# Altium schematic symbol library fgr.SchLib: 756 symbols (part 4 of 4)
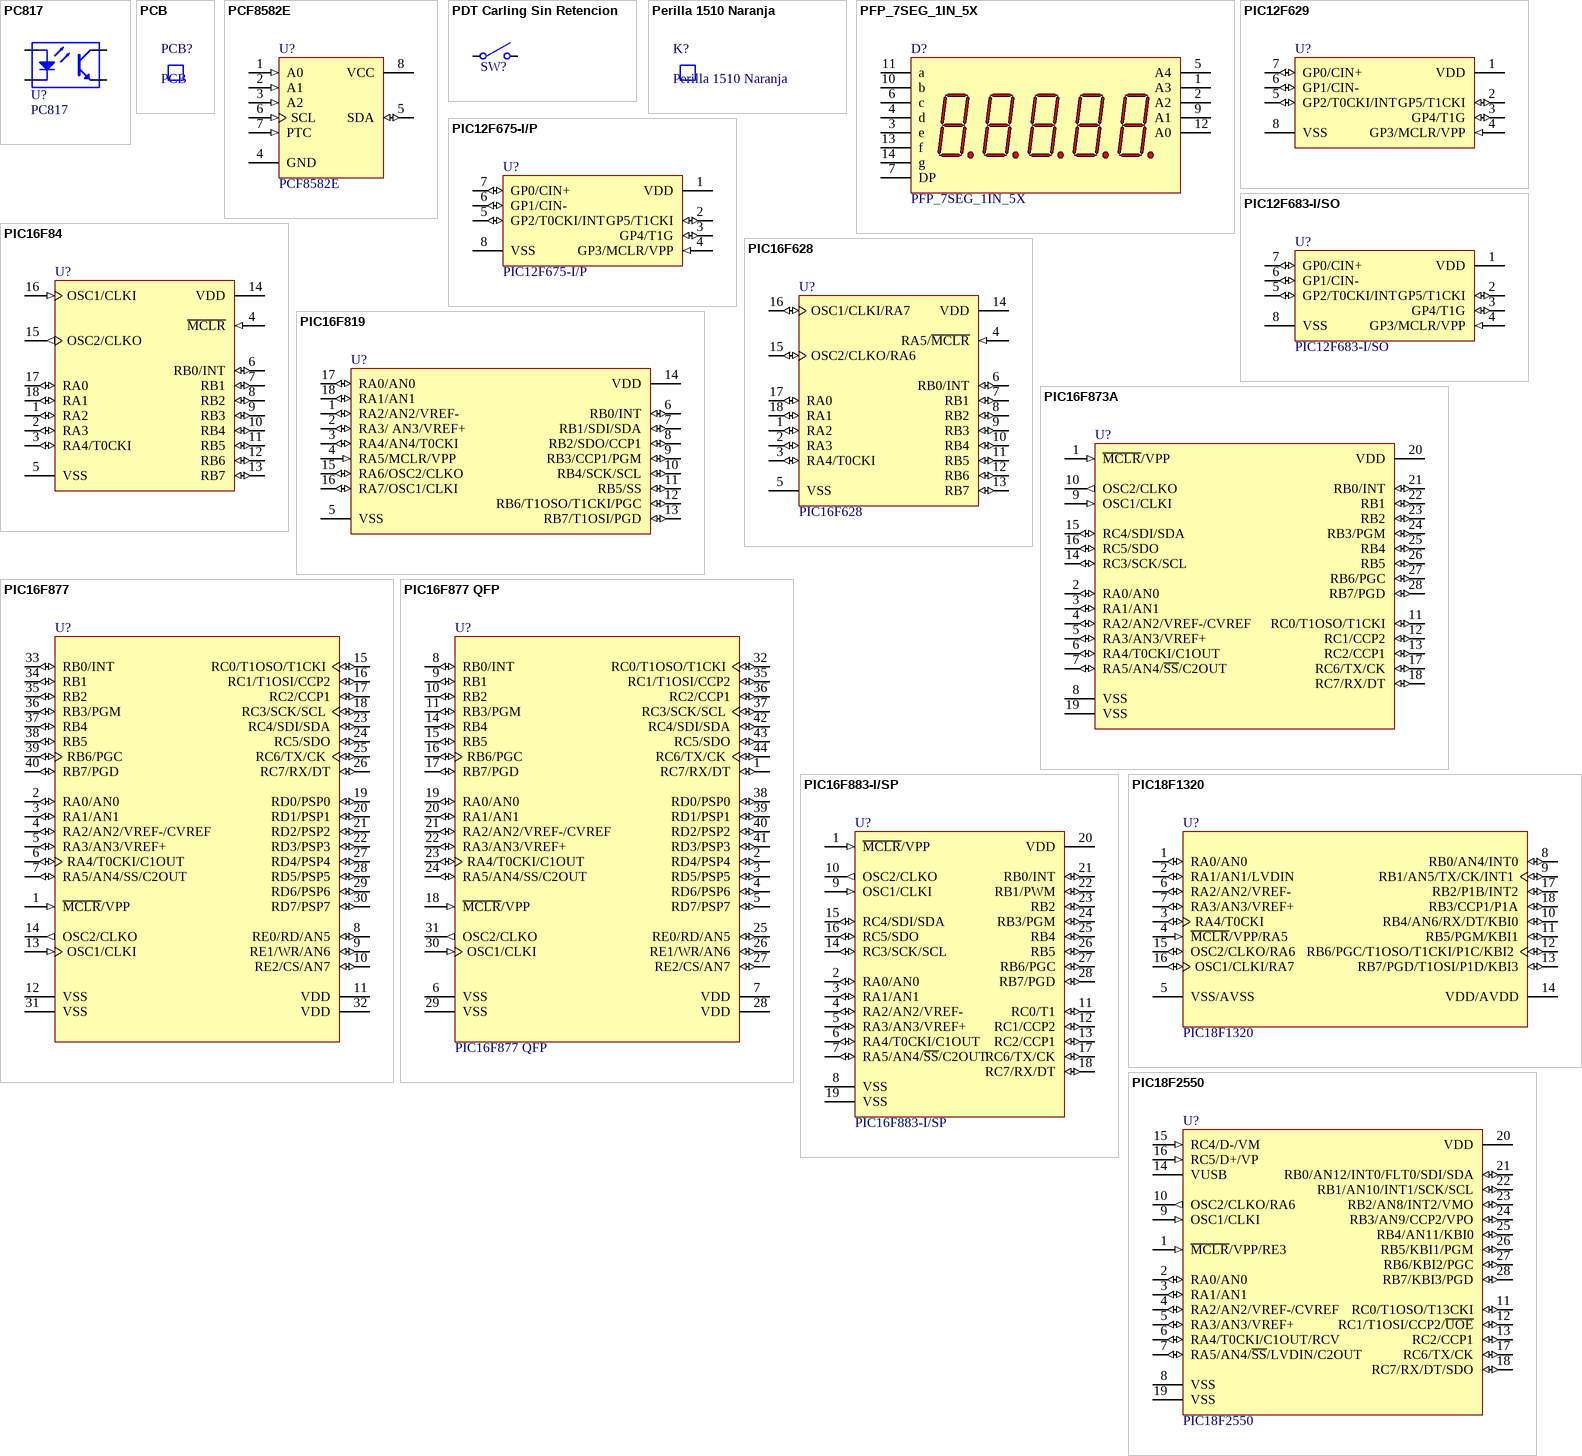
[diagram p27: symbols PC817 to PIC18F2550]

## PIC18F2550
designator U?
Enhanced FLASH Microcontroller
footprint DIP28Z2
footprint soic28
pins: 1 ~{MCLR}/VPP/RE3 (in), 2 RA0/AN0 (io), 3 RA1/AN1 (io), 4 RA2/AN2/VREF-/CVREF (io), 5 RA3/AN3/VREF+ (io), 6 RA4/T0CKI/C1OUT/RCV (io), 7 RA5/AN4/~{SS}/LVDIN/C2OUT (io), 8 VSS (power), 9 OSC1/CLKI (in), 10 OSC2/CLKO/RA6 (out), 11 RC0/T1OSO/T13CKI (io), 12 RC1/T1OSI/CCP2/~{UOE} (io), 13 RC2/CCP1 (io), 14 VUSB, 15 RC4/D-/VM (in), 16 RC5/D+/VP (in), 17 RC6/TX/CK (io), 18 RC7/RX/DT/SDO (io), 19 VSS (power), 20 VDD (power), 21 RB0/AN12/INT0/FLT0/SDI/SDA (io), 22 RB1/AN10/INT1/SCK/SCL (io), 23 RB2/AN8/INT2/VMO (io), 24 RB3/AN9/CCP2/VPO (io), 25 RB4/AN11/KBI0 (io), 26 RB5/KBI1/PGM (io), 27 RB6/KBI2/PGC (io), 28 RB7/KBI3/PGD (io)

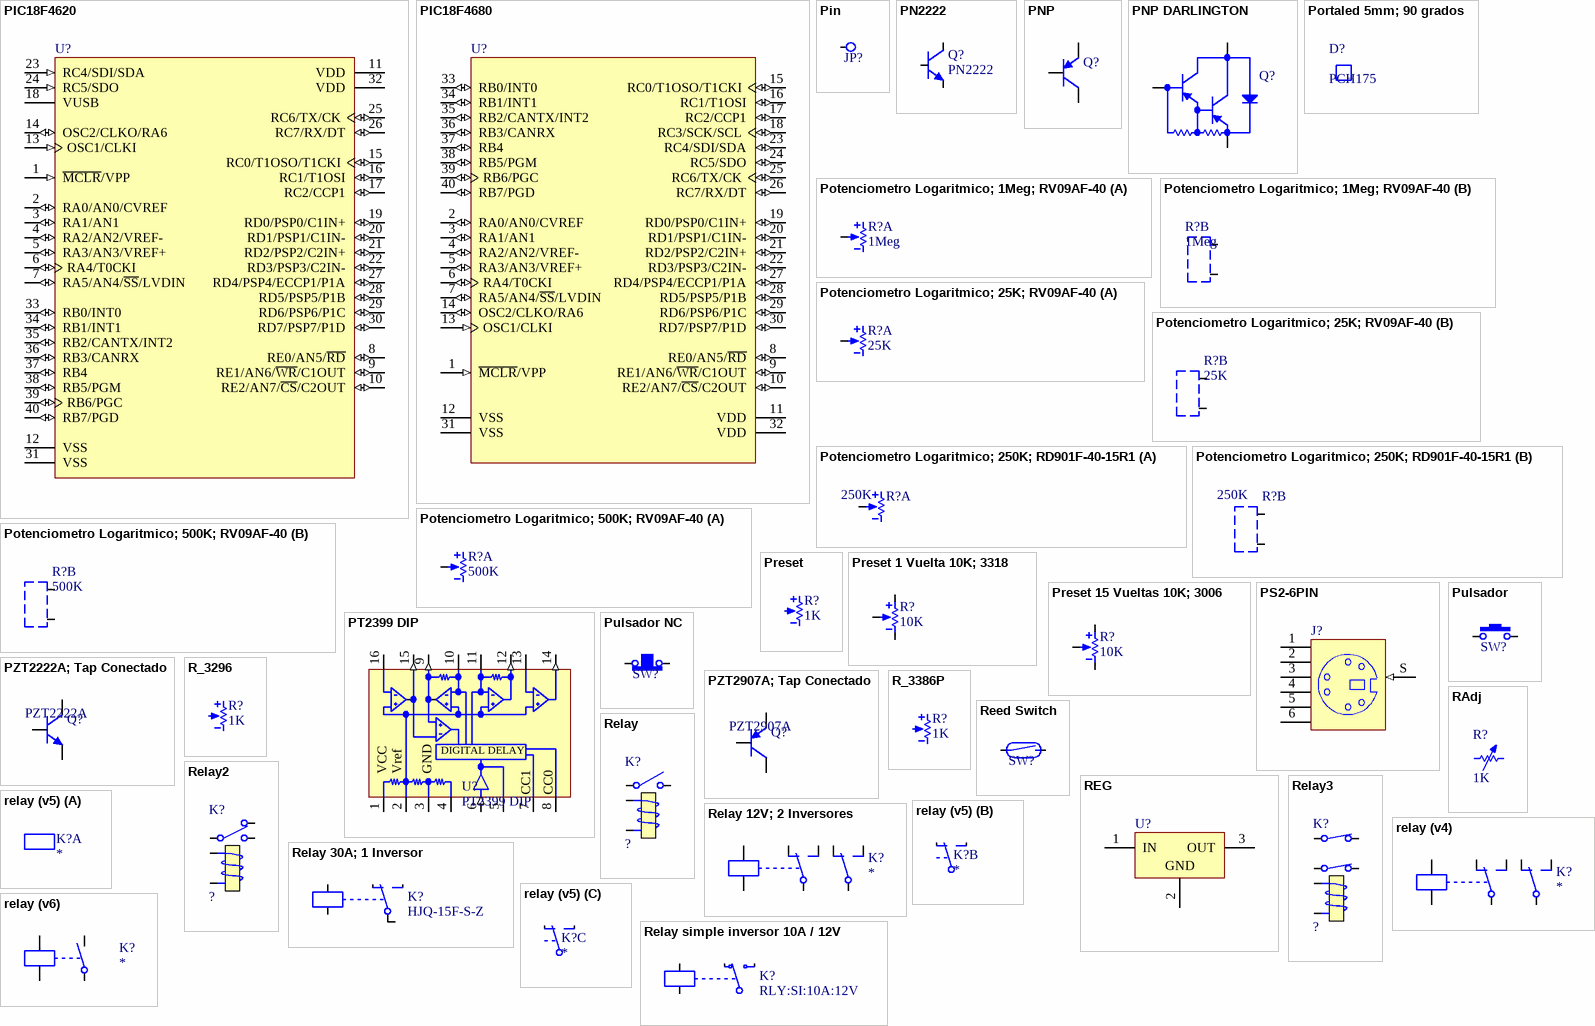
[diagram p19: symbols PIC18F4620 to Relay simple inversor 10A / 12V]

## PIC18F4620
designator U?
FLASH Microcontroller
footprint DIP40 (DIP40 IC)
pins: 1 ~{MCLR}/VPP (in), 2 RA0/AN0/CVREF (io), 3 RA1/AN1 (io), 4 RA2/AN2/VREF- (io), 5 RA3/AN3/VREF+ (io), 6 RA4/T0CKI (io), 7 RA5/AN4/~{SS}/LVDIN (io), 8 RE0/AN5/~{RD} (io), 9 RE1/AN6/~{WR}/C1OUT (io), 10 RE2/AN7/~{CS}/C2OUT (io), 11 VDD (power), 12 VSS (power), 13 OSC1/CLKI (in), 14 OSC2/CLKO/RA6 (io), 15 RC0/T1OSO/T1CKI (io), 16 RC1/T1OSI (io), 17 RC2/CCP1 (io), 18 VUSB (power), 19 RD0/PSP0/C1IN+ (io), 20 RD1/PSP1/C1IN- (io), 21 RD2/PSP2/C2IN+ (io), 22 RD3/PSP3/C2IN- (io), 23 RC4/SDI/SDA (in), 24 RC5/SDO (in), 25 RC6/TX/CK (io), 26 RC7/RX/DT (io), 27 RD4/PSP4/ECCP1/P1A (io), 28 RD5/PSP5/P1B (io), 29 RD6/PSP6/P1C (io), 30 RD7/PSP7/P1D (io), 31 VSS (power), 32 VDD (power), 33 RB0/INT0 (io), 34 RB1/INT1 (io), 35 RB2/CANTX/INT2 (io), 36 RB3/CANRX (io), 37 RB4 (io), 38 RB5/PGM (io), 39 RB6/PGC (io), 40 RB7/PGD (io)

## PIC18F4680
designator U?
FLASH Microcontroller
footprint DIP40 (DIP40 IC)
pins: 1 ~{MCLR}/VPP (in), 2 RA0/AN0/CVREF (io), 3 RA1/AN1 (io), 4 RA2/AN2/VREF- (io), 5 RA3/AN3/VREF+ (io), 6 RA4/T0CKI (io), 7 RA5/AN4/~{SS}/LVDIN (io), 8 RE0/AN5/~{RD} (io), 9 RE1/AN6/~{WR}/C1OUT (io), 10 RE2/AN7/~{CS}/C2OUT (io), 11 VDD (power), 12 VSS (power), 13 OSC1/CLKI (in), 14 OSC2/CLKO/RA6 (io), 15 RC0/T1OSO/T1CKI (io), 16 RC1/T1OSI (io), 17 RC2/CCP1 (io), 18 RC3/SCK/SCL (io), 19 RD0/PSP0/C1IN+ (io), 20 RD1/PSP1/C1IN- (io), 21 RD2/PSP2/C2IN+ (io), 22 RD3/PSP3/C2IN- (io), 23 RC4/SDI/SDA (io), 24 RC5/SDO (io), 25 RC6/TX/CK (io), 26 RC7/RX/DT (io), 27 RD4/PSP4/ECCP1/P1A (io), 28 RD5/PSP5/P1B (io), 29 RD6/PSP6/P1C (io), 30 RD7/PSP7/P1D (io), 31 VSS (power), 32 VDD (power), 33 RB0/INT0 (io), 34 RB1/INT1 (io), 35 RB2/CANTX/INT2 (io), 36 RB3/CANRX (io), 37 RB4 (io), 38 RB5/PGM (io), 39 RB6/PGC (io), 40 RB7/PGD (io)

## Pin
designator JP?
Pin; Price: ?
footprint pin_130_70
pins: 1

## PN2222
designator Q?
footprint to92 (DISPOSITIVO DE ENCAPSULADO TO-92); pin to pad 1>2 2>3 3>1
pins: 1 B, 2 C, 3 E

## PNP
designator Q?
PNP Bipolar Transistor; Price: 0.3267
footprint to92 (DISPOSITIVO DE ENCAPSULADO TO-92)
simulation model BC856A (PNP)
simulation model QBC856B (PNP)
footprint SOT23; pin to pad 1>3 2>1 3>2
simulation model QPNP (SUBCKT)
simulation model PNPDEF (MDL)
pins: 1 C, 2 B, 3 E

## PNP DARLINGTON
designator Q?
PNP Darlington Bipolar Transistor; Price: ?
pins: 1 C, 2 B, 3 E

## Portaled 5mm; 90 grados
designator D?, comment PCH175
Portaled 5mm; 90 grados; Codigo Mouser: 593-PCH175; Dolares Mouser: 0.27; Dolares Mouser x10: 0.243; Dolares Mouser x100: 0.152; Dolares Mouser x500: 0.09
footprint PORTALED PCH175

## Potenciometro Logaritmico; 1Meg; RV09AF-40
designator R?, comment Resistencia: 1Meg  (hidden comment: RV09AF-40)
Potenciometro Logaritmico; 1Meg; RV09AF-40; Dolares Tyda: 0.67; Codigo Mouser: 317-2080F-1M; Dolares Mouser: 1.28; Dolares Mouser x25: 1.07; Dolares Mouser x50: 1.01; Dolares Mouser x100: 0.909; Dolares Mouser x500: 0.771
footprint Pote RV09 ALPHA
part A pins: 1, 2, 3
part B pins: 4, 5

## Potenciometro Logaritmico; 25K; RV09AF-40
designator R?, comment Resistencia: 25K  (hidden comment: RV09AF-40)
Potenciometro Logaritmico; 25K; RV09AF-40; Dolares Tyda: 0.67
footprint Pote RV09 ALPHA
part A pins: 1, 2, 3
part B pins: 4, 5

## Potenciometro Logaritmico; 250K; RD901F-40-15R1
designator R?, comment Resistencia: 250K  (hidden comment: RD901F-40-15R1)
Potenciometro Logaritmico; 250K; RD901F-40-15R1; Dolares Mammoth: 1.90
footprint POTE RD901F-40-15R ALPHA; pin to pad 2>3 3>2
part A pins: 1, 2, 3
part B pins: 4, 5

## Potenciometro Logaritmico; 500K; RV09AF-40
designator R?, comment Resistencia: 500K  (hidden comment: RV09AF-40)
Potenciometro Logaritmico; 500K; RV09AF-40; Dolares Tyda: 0.67
footprint Pote RV09 ALPHA
part A pins: 1, 2, 3
part B pins: 4, 5

## Preset
designator R?  value 1K  (hidden comment: Preset)
Resistencia Variable
simulation model Potentiometer
footprint PRESET6
pins: 1, 2, 3

## Preset 1 Vuelta 10K; 3318
designator R?  value 10K  (hidden comment: Preset 1 Vuelta 10K; 3318)
footprint preset7
pins: 1, 2, 3

## Preset 15 Vueltas 10K; 3006
designator R?  value 10K  (hidden comment: Preset 15 Vueltas 10K; 3006)
footprint preset5
pins: 1, 2, 3

## PS2-6PIN
designator J?
6 Pin Through Hole PS2 Socket (Kycon P/N)
footprint PS2-6PIN
pins: 1, 2, 3, 4, 5, 6, S (in)

## PT2399 DIP
designator U?
footprint DIP16 (DIP16 IC)
pins: 1 VCC (power), 2 Vref (power), 3 AGND (power), 4 DGND (power), 5 CLK OUT (io), 6 DGND (in), 7 CC1, 8 CC0, 9 INT1 OUT (out), 10 INT1 IN, 11 INT2 IN, 12 INT2 OUT (out), 13 OA2 IN, 14 OA2 OUT (out), 15 OA1 OUT (out), 16 OA1 IN
text: DIGITAL DELAY; GND

## Pulsador
designator SW?
Pulsador; Price: ?
footprint PULSADOR200TH (PULSADOR DE 2 CONTACTOS, 2 TERMINALES)
footprint PULSADOR300TH (PULSADOR DE 2 CONTACTOS, 4 TERMINALES)
footprint PULSADOR300TH_CRUZADO
footprint PULSADOR625mmTH
footprint PULSADOR625mmTH_CRUZ
footprint pulsador_V1; pin to pad 1>3
pins: 1, 2

## Pulsador NC
designator SW?  (value not drawn)
Price: ?
footprint PULSADOR200TH (PULSADOR DE 2 CONTACTOS, 2 TERMINALES)
footprint PULSADOR300TH (PULSADOR DE 2 CONTACTOS, 4 TERMINALES)
footprint PULSADOR300TH_CRUZADO
footprint PULSADOR625mmTH
footprint PULSADOR625mmTH_CRUZ
footprint pulsador_V1; pin to pad 1>3
pins: 1, 2

## PZT2222A; Tap Conectado
designator Q?, comment PZT2222A
Codigo Mouser: 512-PZT2222A; Dolares Mouser: 0.42; Dolares Mouser x10: 0.299; Dolares Mouser x100: 0.137; Dolares Mouser x1000: 0.106
footprint SOT223 (ENCAPSULADO SOT-223)
pins: 1 B, 2 C, 3 E, 4 TAP

## PZT2907A; Tap Conectado
designator Q?, comment PZT2907A
PZT2907A; Tap Conectado; Codigo Mouser: 512-PZT2907A; Dolares Mouser: 0.46; Dolares Mouser x10: 0.326; Dolares Mouser x100: 0.15; Dolares Mouser x1000: 0.115
footprint SOT223 (ENCAPSULADO SOT-223)
simulation model BC856A (PNP)
simulation model QBC856B (PNP)
simulation model QPNP (SUBCKT)
simulation model PNPDEF (MDL)
pins: 1 B, 2 C, 3 E, 4 TAP

## R_3296
designator R?  value 1K  (hidden comment: R_3296)
Price: ?
footprint R_3296 (Footprint not found)
pins: 1, 2, 3

## R_3386P
designator R?  value 1K  (hidden comment: R_3386P)
Price: ?
footprint R_3386P (Footprint not found)
pins: 1, 2, 3

## RAdj
designator R?  value 1K
Adjustable resistor; Price: ?
footprint Preset
footprint Potenciometro
footprint HDR2x1 (HEADER 2x1)
footprint Preset6
footprint Preset6; pin to pad 1>3
pins: 1, 2

## Reed Switch
designator SW?  (value not drawn)
footprint PULSADOR300TH (PULSADOR DE 2 CONTACTOS, 4 TERMINALES)
pins: 1, 2

## REG
designator U?
Positive Fixed Voltage Regulator; Price: ?
footprint TO220 (DISPOSITIVO DE ENCAPSULADO TO-220)
pins: 1 IN (power), 2 GND (power), 3 OUT (power)

## Relay
designator K?  (value not drawn)
Price: ?; Current: ?
footprint Relay Omron G2R-1A
pins: 1, 2, 3, 4

## Relay2
designator K?
Relay; Price: ?; Current: ?
footprint RELAY2 (Relay)
pins: 1, 2, 3, 4, 5

## Relay3
designator K?
Relay; Price: ?; Current: ?
pins: 1, 2, 3, 4, 5, 6

## Relay 12V; 2 Inversores
designator K?
Relay 12V; 2 Inversores; Codigo Elemon: RE4550960; Dolares Elemon: 1.37964
footprint relay4
pins: 1, 2, 3, 4, 5, 6, 7, 8

## Relay 30A; 1 Inversor
designator K?, comment HJQ-15F-S-Z
Relay 30A; 1 Inversor; Codigo Elemon: RE4551610; Dolares Elemon: 1.01998
footprint relay3 (Relay SLA)
pins: 1, 2, 3, 4, 5, 6

## relay (v4)
designator K?
footprint relay4
pins: 1, 2, 3, 4, 5, 6, 7, 8

## relay (v5)
designator K?
footprint RELAY4
part A pins: 4, 5
part B pins: 6, 7, 8
part C pins: 1, 2, 3

## relay (v6)
designator K?
footprint relay5 (Relay)
pins: 1, 3, 4, 5

## Relay simple inversor 10A / 12V
designator K?, comment RLY:SI:10A:12V
Relay simple inversor 10A / 12V
footprint RLY_SI_10A (Relay simple inversor 10A / XXV)
pins: 1, 2, 3, 4, 5

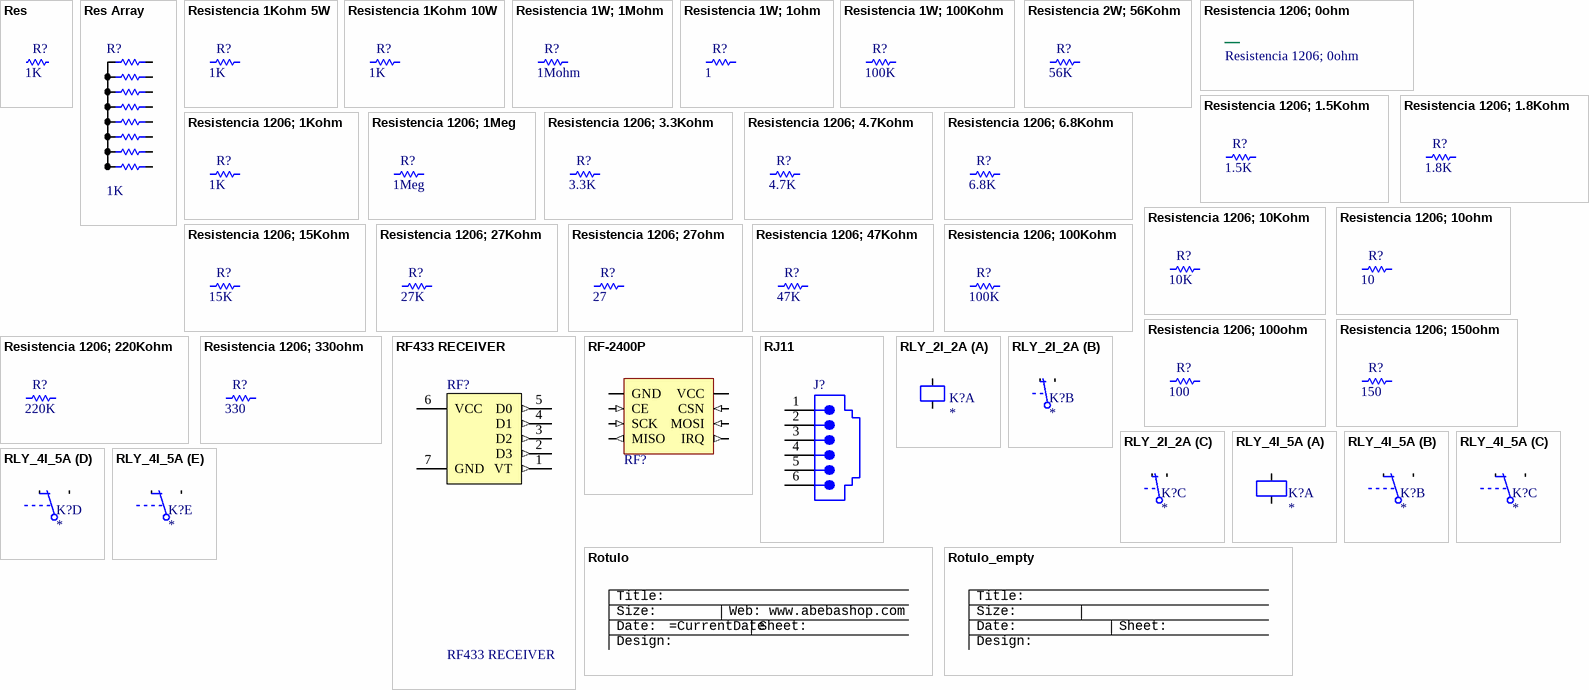
[diagram p20: symbols Res to Rotulo_empty]

## Res
designator R?  value 1K  (hidden comment: Res)
Resistencia; Power: 0.25W; Price: 0.036
footprint RES250TH (RESISTENCIA THROUGH-HOLE)
footprint RES300TH (RESISTENCIA THROUGH-HOLE)
simulation model RESISTOR (Resistor)
footprint RES1100TH_ALAMBRE (RESISTOR DE ALAMBRE)
footprint R_3W_MF
footprint R1206
footprint 0805
footprint res400th
footprint res800th
footprint res500th
footprint RES2100TH_ALAMBRE
footprint RES1500TH_ALAMBRE
footprint res800th_vertical
footprint res250th_vertical
pins: 1, 2

## Res Array
designator R?  value 1K  (hidden comment: Res Array)
Resistor Array; Power: 0.25W; Price: 0.036
footprint RES_ARRAY_8
pins: 1, 2, 3, 4, 5, 6, 7, 8, 9

## Resistencia 1Kohm 5W
designator R?  Resistencia: 1K  (hidden comment: Resistencia 1Kohm 5W)
Codigo Elemon: RS3886185; Dolares Elemon: 0.00720
simulation model RESISTOR (Resistor)
footprint R_5W (RESISTOR DE ALAMBRE)
pins: 1, 2

## Resistencia 1Kohm 10W
designator R?  Resistencia: 1K  (hidden comment: Resistencia 1Kohm 10W)
Codigo Elemon: RS3886185; Dolares Elemon: 0.00720
simulation model RESISTOR (Resistor)
footprint R_10W
pins: 1, 2

## Resistencia 1W; 1Mohm
designator R?  Resistencia: 1Mohm  (hidden comment: Resistencia 1W; 1Mohm)
Codigo Elemon: RS4036365; Dolares Elemon: 0.06231
simulation model RESISTOR (Resistor)
footprint R_1W_MF
pins: 1, 2

## Resistencia 1W; 1ohm
designator R?  Resistencia: 1  (hidden comment: Resistencia 1W; 1ohm)
Codigo Elemon: RS4036005; Dolares Elemon: 0.06231
simulation model RESISTOR (Resistor)
footprint R_1W_MF
pins: 1, 2

## Resistencia 1W; 100Kohm
designator R?  Resistencia: 100K  (hidden comment: Resistencia 1W; 100Kohm)
Codigo Elemon: RS4036305; Dolares Elemon: 0.06231
simulation model RESISTOR (Resistor)
footprint R_1W_MF
pins: 1, 2

## Resistencia 2W; 56Kohm
designator R?  Resistencia: 56K  (hidden comment: Resistencia 2W; 56Kohm)
Codigo Elemon: RS4046290; Dolares Elemon: 0.10597
simulation model RESISTOR (Resistor)
footprint R_2W_MF
pins: 1, 2

## Resistencia 1206; 0ohm
designator R?
Codigo Elemon: RS3885900; Dolares Elemon: 0.00720
footprint R1206
pins: 1, 2

## Resistencia 1206; 1.5Kohm
designator R?  Resistencia: 1.5K  (hidden comment: Resistencia 1206; 1.5Kohm)
Codigo Elemon: RS3886195; Dolares Elemon: 0.00720
simulation model RESISTOR (Resistor)
footprint R1206
pins: 1, 2

## Resistencia 1206; 1.8Kohm
designator R?  Resistencia: 1.8K  (hidden comment: Resistencia 1206; 1.8Kohm)
Codigo Elemon: RS3886200; Dolares Elemon: 0.00720
simulation model RESISTOR (Resistor)
footprint R1206
pins: 1, 2

## Resistencia 1206; 1Kohm
designator R?  Resistencia: 1K  (hidden comment: Resistencia 1206; 1Kohm)
Codigo Elemon: RS3886185; Dolares Elemon: 0.00720
simulation model RESISTOR (Resistor)
footprint R1206
pins: 1, 2

## Resistencia 1206; 1Meg
designator R?  Resistencia: 1Meg  (hidden comment: Resistencia 1206; 1Meg)
Codigo Elemon: RS3886365; Dolares Elemon: 0.00720
simulation model RESISTOR (Resistor)
footprint R1206
pins: 1, 2

## Resistencia 1206; 3.3Kohm
designator R?  Resistencia: 3.3K  (hidden comment: Resistencia 1206; 3.3Kohm)
Dolares Elemon: 0.00720; Codigo Elemon: RS3886215
simulation model RESISTOR (Resistor)
footprint R1206
pins: 1, 2

## Resistencia 1206; 4.7Kohm
designator R?  Resistencia: 4.7K  (hidden comment: Resistencia 1206; 4.7Kohm)
Dolares Elemon: 0.00720; Codigo Elemon: RS3886225
simulation model RESISTOR (Resistor)
footprint R1206
pins: 1, 2

## Resistencia 1206; 6.8Kohm
designator R?  Resistencia: 6.8K  (hidden comment: Resistencia 1206; 6.8Kohm)
Codigo Elemon: RS3886234; Dolares Elemon: 0.00720
simulation model RESISTOR (Resistor)
footprint R1206
pins: 1, 2

## Resistencia 1206; 10Kohm
designator R?  Resistencia: 10K  (hidden comment: Resistencia 1206; 10Kohm)
Codigo Elemon: RS3886245; Dolares Elemon: 0.00718
simulation model RESISTOR (Resistor)
footprint R1206
pins: 1, 2

## Resistencia 1206; 10ohm
designator R?  Resistencia: 10  (hidden comment: Resistencia 1206; 10ohm)
Codigo Elemon: RS3886070; Dolares Elemon: 0.00717
simulation model RESISTOR (Resistor)
footprint R1206
pins: 1, 2

## Resistencia 1206; 15Kohm
designator R?  Resistencia: 15K  (hidden comment: Resistencia 1206; 15Kohm)
Codigo Elemon: RS3886255; Dolares Elemon: 0.00720
simulation model RESISTOR (Resistor)
footprint R1206
pins: 1, 2

## Resistencia 1206; 27Kohm
designator R?  Resistencia: 27K  (hidden comment: Resistencia 1206; 27Kohm)
Codigo Elemon: RS3886270; Dolares Elemon: 0.00717
simulation model RESISTOR (Resistor)
footprint R1206
pins: 1, 2

## Resistencia 1206; 27ohm
designator R?  Resistencia: 27  (hidden comment: Resistencia 1206; 27ohm)
Codigo Elemon: RS3886090; Dolares Elemon: 0.00720
simulation model RESISTOR (Resistor)
footprint R1206
pins: 1, 2

## Resistencia 1206; 47Kohm
designator R?  Resistencia: 47K  (hidden comment: Resistencia 1206; 47Kohm)
Codigo Elemon: RS3886285; Dolares Elemon: 0.00717
simulation model RESISTOR (Resistor)
footprint R1206
pins: 1, 2

## Resistencia 1206; 100Kohm
designator R?  Resistencia: 100K  (hidden comment: Resistencia 1206; 100Kohm)
Codigo Elemon: RS3886305; Dolares Elemon: 0.00719
simulation model RESISTOR (Resistor)
footprint R1206
pins: 1, 2

## Resistencia 1206; 100ohm
designator R?  Resistencia: 100  (hidden comment: Resistencia 1206; 100ohm)
Codigo Elemon: RS3886125; Dolares Elemon: 0.00718
simulation model RESISTOR (Resistor)
footprint R1206
pins: 1, 2

## Resistencia 1206; 150ohm
designator R?  Resistencia: 150  (hidden comment: Resistencia 1206; 150ohm)
Codigo Elemon: RS3886135; Dolares Elemon: 0.00720
simulation model RESISTOR (Resistor)
footprint R1206
pins: 1, 2

## Resistencia 1206; 220Kohm
designator R?  Resistencia: 220K  (hidden comment: Resistencia 1206; 220Kohm)
Codigo Elemon: RS3886325; Dolares Elemon: 0.00717
simulation model RESISTOR (Resistor)
footprint R1206
pins: 1, 2

## Resistencia 1206; 330ohm
designator R?  Resistencia: 330  (hidden comment: Resistencia 1206; 330ohm)
Codigo Elemon: RS3886155; Dolares Elemon: 0.00718
simulation model RESISTOR (Resistor)
footprint R1206
pins: 1, 2

## RF433 RECEIVER
designator RF?
Revision: 17-Jul-2002: Re-released for DXP Platform.
footprint RF433_RECEIVER
pins: 1 VT (out), 2 D3 (out), 3 D2 (out), 4 D1 (out), 5 D0 (out), 6 VCC (power), 7 GND (power)

## RF-2400P
designator RF?
2.4GHz RF Module; Price: ?
footprint RF-2400P
pins: 1 GND, 2 VCC, 3 CE (in), 4 CSN (in), 5 SCK (in), 6 MOSI (in), 7 MISO (out), 8 IRQ (out)

## RJ11
designator J?
PCB Jack
footprint telephonejack1
pins: 1, 2, 3, 4, 5, 6

## RLY_2I_2A
designator K?
footprint relay4
part A pins: 4, 5
part B pins: 1, 2, 3
part C pins: 6, 7, 8

## RLY_4I_5A
designator K?
footprint RLY_4I_5A
part A pins: 13, 14
part B pins: 1, 5, 9
part C pins: 2, 6, 10
part D pins: 3, 7, 11
part E pins: 4, 8, 12

## Rotulo
designator ROT?  (value not drawn)  (graphical)
Rotulo [consolas]
text: Title:; Size:; Web: www.abebashop.com; Date:; Sheet:; Design:

## Rotulo_empty
designator ROT?  (value not drawn)  (graphical)
Rotulo [consolas]
text: Title:; Size:; Date:; Sheet:; Design:

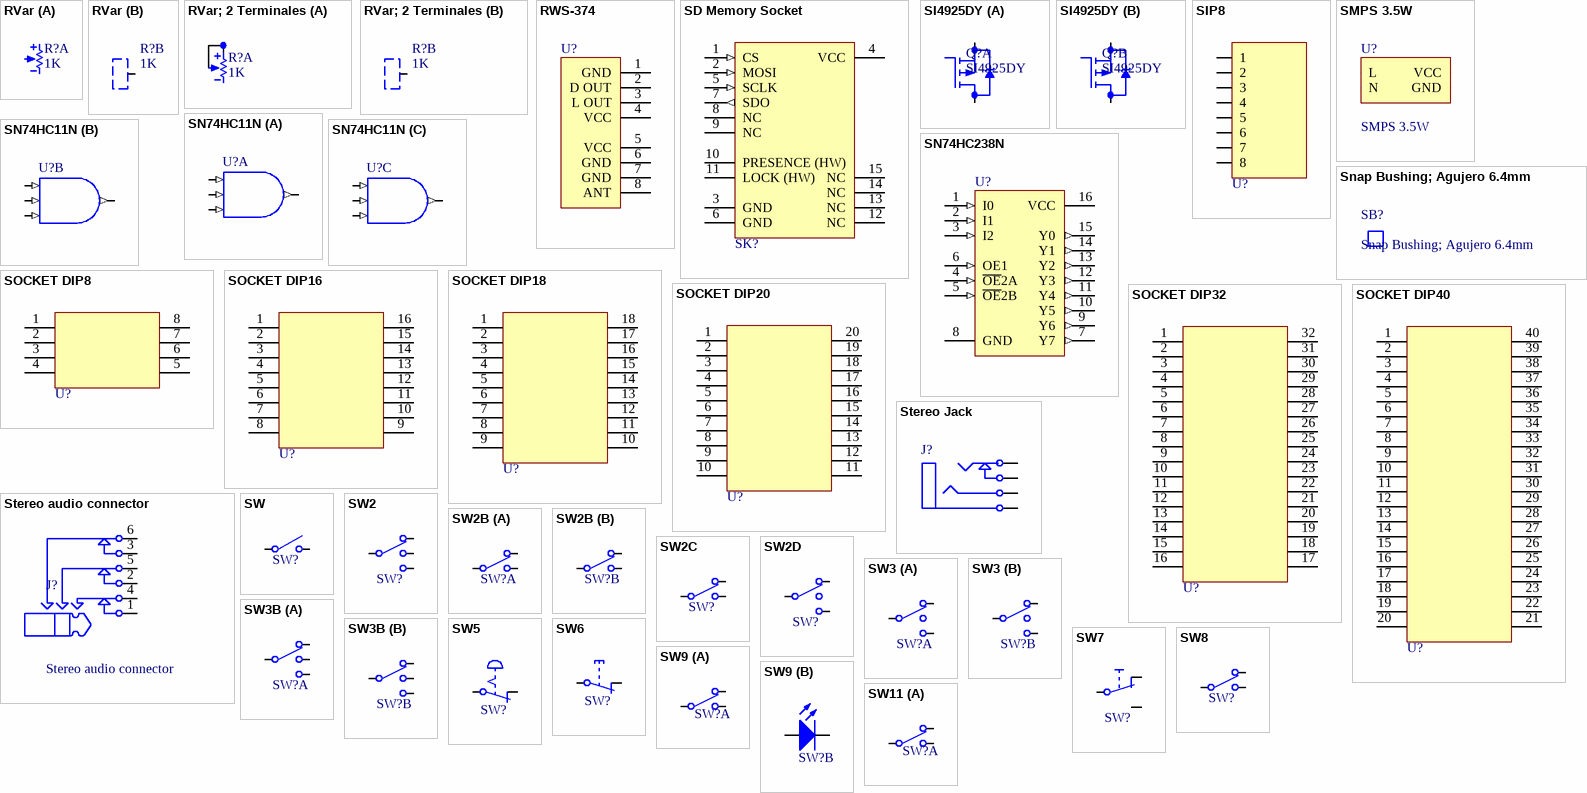
[diagram p21: symbols RVar to SW11]

## RVar
designator R?  value 1K  (hidden comment: RVar)
Resistencia Variable; Set Position: 0,5; Price: ?
simulation model Potentiometer
footprint PRESET; pin to pad 2>3 3>2
footprint preset3; pin to pad 2>3 3>2
footprint preset2; pin to pad 2>3 3>2
footprint preset5
footprint CONPOL3x1 (CONECTOR POLARIZADO 3x1); pin to pad 2>3 3>2
footprint Preset6; pin to pad 2>3 3>2
footprint hdr3x1 (HEADER 3x1); pin to pad 2>3 3>2
footprint potenciometro2 (Potenciómetro para soldar)
footprint potenciometro (Potenciómetro para soldar acostado)
footprint Pote - LA16ECO8MM (marca omeg); pin to pad 2>3 3>2
footprint conpol4x1 (CONECTOR POLARIZADO 4x1)
footprint Potenciometro (Potenciómetro para soldar acostado)
part A pins: 1, 2, 3
part B pins: 4

## RVar; 2 Terminales
designator R?  value 1K  (hidden comment: RVar; 2 Terminales)
Price: ?
footprint CONPOL2x1 (CONECTOR POLARIZADO 2x1)
footprint conpol3x1 (CONECTOR POLARIZADO 3x1)
part A pins: 2, 3
part B pins: 3

## RWS-374
designator U?
RF Transmitter; Price: ?
footprint transmitter
pins: 1 GND, 2 D OUT, 3 L OUT, 4 VCC, 5 VCC, 6 GND, 7 GND, 8 ANT

## SD Memory Socket
designator SK?
SD Memory Socket; Price: ?
footprint SOCKET_SD
pins: 1 CS (in), 2 MOSI (in), 3 GND (power), 4 VCC, 5 SCLK (in), 6 GND (power), 7 SDO (out), 8 NC, 9 NC, 10 PRESENCE (HW), 11 LOCK (HW), 12 NC, 13 NC, 14 NC, 15 NC

## SI4925DY
designator Q?
Price: ?
footprint SO8 (SO8 IC)
part A pins: 1 S1, 2 G1, 7 D1, 8 D1
part B pins: 3 S2, 4 G2, 5 D2, 6 D2

## SIP8
designator U?
Encapsulado SIP8; Price: ?
footprint SIP8
pins: 1, 2, 3, 4, 5, 6, 7, 8

## SMPS 3.5W
designator U?
Codigo Elemon: CI2707460; Dolares Elemon: 0.37399
footprint SMPS_3.5W
pins: 1 GND (power), 2 VCC (power), 3 N (power), 4 L (power)

## SN74HC11N
designator U?
Triple 3-Input Positive-AND Gate; Published: 8-Jun-2000; LatestRevisionDate: 04-Mar-2005; LatestRevisionNote: Stylized 3D Model Added.; DatasheetVersion: May-1997; PackageVersion: Oct-1995; PackageReference: N014; Publisher: Altium Limited; PackageDescription: DIP; 14 Leads; Row Spacing 7.62 mm; Pitch 2.54 mm; ComponentLink1Description: Manufacturer Link; ComponentLink1URL: http://www.ti.com/; ComponentLink2Description: Datasheet; ComponentLink2URL: http://www-s.ti.com/sc/ds/SN74HC11.pdf
footprint N014 (DIP; 14 Leads; Row Spacing 7.62 mm; Pitch 2.54 mm)
3D model N014 (DIP; 14 Leads; Row Spacing 7.62 mm; Pitch 2.54 mm)
signal-integrity model SN74HC11N
pins on every part: 7 GND (power) hidden to GND, 14 VCC (power) hidden to VCC
part A pins: 1 A (in), 2 B (in), 12 Y (out), 13 C (in)
part B pins: 3 A (in), 4 B (in), 5 C (in), 6 Y (out)
part C pins: 8 Y (out), 9 A (in), 10 B (in), 11 C (in)

## SN74HC238N
designator U?
3-Line to 8-Line Decoder / Demultiplexer; ComponentAvailability: Obsolete; Published: 8-Jun-2000; LatestRevisionDate: 04-Mar-2005; LatestRevisionNote: Stylized 3D Model Added.; DatasheetVersion: Jun-1989; PackageVersion: Oct-1995; PackageReference: N016D; Publisher: Altium Limited; PackageDescription: DIP; 16 Leads; Row Spacing 7.62 mm; Pitch 2.54 mm; Code_JEDEC: MS-001-BB; ComponentLink1Description: Manufacturer Link; ComponentLink1URL: http://www.ti.com/; ComponentLink2Description: Discontinuation Notice; ComponentLink2URL: http://focus.ti.com/docs/prod/folders/print/sn74hc238.html
footprint N016D (DIP; 16 Leads; Row Spacing 7.62 mm; Pitch 2.54 mm)
3D model N016 (DIP; 16 Leads; Row Spacing 7.62 mm; Pitch 2.54 mm)
signal-integrity model SN74HC238N
pins: 1 I0 (in), 2 I1 (in), 3 I2 (in), 4 ~{OE}2A (in), 5 ~{OE}2B (in), 6 OE1 (in), 7 Y7 (out), 8 GND (power), 9 Y6 (out), 10 Y5 (out), 11 Y4 (out), 12 Y3 (out), 13 Y2 (out), 14 Y1 (out), 15 Y0 (out), 16 VCC (power)

## Snap Bushing; Agujero 6.4mm
designator SB?  (mechanical)
Codigo Mouser: 836-2030; Dolares Mouser: 0.13; Dolares Mouser x500: 0.07; Dolares Mouser x1000: 0.06; Dolares Mouser x100: 0.09

## SOCKET DIP8
designator U?
Socket dip8; Price: ?
footprint DIP8Z (ZOCALO DIP 8)
pins: 1, 2, 3, 4, 5, 6, 7, 8

## SOCKET DIP16
designator U?
Socket dip16; Price: ?
footprint DIP16 (DIP16 IC)
footprint DIP16Z (ZOCALO DIP16)
pins: 1, 2, 3, 4, 5, 6, 7, 8, 9, 10, 11, 12, 13, 14, 15, 16

## SOCKET DIP18
designator U?
Socket dip18; Price: ?
footprint DIP18Z (ZOCALO DIP18)
pins: 1, 2, 3, 4, 5, 6, 7, 8, 9, 10, 11, 12, 13, 14, 15, 16, 17, 18

## SOCKET DIP20
designator U?
Socket dip20; Price: ?
footprint DIP20Z
pins: 1, 2, 3, 4, 5, 6, 7, 8, 9, 10, 11, 12, 13, 14, 15, 16, 17, 18, 19, 20

## SOCKET DIP32
designator U?
Socket dip32; Price: ?
footprint DIP32Z (ZOCALO DIP32)
footprint DIP32Z30MILS (ZOCALO DIP32 CON SEPARACION DE PINES=300MILS)
pins: 1, 2, 3, 4, 5, 6, 7, 8, 9, 10, 11, 12, 13, 14, 15, 16, 17, 18, 19, 20, 21, 22, 23, 24, 25, 26, 27, 28, 29, 30, 31, 32

## SOCKET DIP40
designator U?
Socket dip40; Price: ?
footprint DIP40Z (DIP40 ZOCALO)
footprint zif40
pins: 1, 2, 3, 4, 5, 6, 7, 8, 9, 10, 11, 12, 13, 14, 15, 16, 17, 18, 19, 20, 21, 22, 23, 24, 25, 26, 27, 28, 29, 30, 31, 32, 33, 34, 35, 36, 37, 38, 39, 40

## Stereo audio connector
designator J?
footprint audio6.5
footprint AUDIO NRJ6HM-1
pins: 1, 2, 3, 4, 5, 6

## Stereo Jack
designator J?
Stereo Jack; Revision: 17-Jul-2002: Re-released for DXP Platform.
pins: 1 A, 2 B, 3 C, 4 D

## SW
designator SW?
Switch; Price: ?
footprint PULSADOR200TH (PULSADOR DE 2 CONTACTOS, 2 TERMINALES)
footprint PULSADOR300TH (PULSADOR DE 2 CONTACTOS, 4 TERMINALES)
footprint PULSADOR300TH_CRUZADO
pins: 1, 2

## SW2
designator SW?  (value not drawn)
Switch 3 puntos; Price: ?
footprint sw1
footprint conpol4x1 (CONECTOR POLARIZADO 4x1)
pins: 1, 2, 3, 4

## SW2B
designator SW?  (value not drawn)
2 Switches de 2 posiciones; Price: ?
footprint sw2x2 (2 Switchs de 2 posiciones)
footprint SW1
footprint 2pdt - alpha
footprint sw3; pin to pad 1>3 2>1 3>2 4>6 5>4 6>5
part A pins: 1, 2, 3
part B pins: 4, 5, 6

## SW2C
designator SW?  (value not drawn)
Switch de 2 posiciones; Price: ?
footprint conpol3x1 (CONECTOR POLARIZADO 3x1)
footprint 1PDT - CARLING (64111212)
pins: 1, 2, 3

## SW2D
designator SW?  (value not drawn)
Switch 3 puntos; Price: ?
footprint hdr3x1 (HEADER 3x1)
pins: 1, 2, 3

## SW3
designator SW?
2 switches de 3 puntos; Price: ?
footprint SW1
part A pins: 1, 2, 3
part B pins: 4, 5, 6

## SW3B
designator SW?  (value not drawn)
2 switches de 3 puntos; Price: ?
footprint SW1
part A pins: 1, 2, 3, 4
part B pins: 5, 6, 7, 8

## SW5
designator SW?
Pulsador NC tipo hongo con dispositivo de enganche; Price: ?
footprint bornera_e2 (BORNERA ENCHUFABLE 2 CONTACTOS)
footprint bornera2
pins: 1, 2

## SW6
designator SW?
Pulsador NC con retorno automático; Price: ?
footprint bornera_e2 (BORNERA ENCHUFABLE 2 CONTACTOS)
footprint bornera2
pins: 1, 2

## SW7
designator SW?
Contacto inversor antes de cierre; Price: ?
footprint bornera3
pins: 1, 2, 3

## SW8
designator SW?
SPDT; Price: ?
footprint SW4
pins: 1, 2, 3

## SW9
designator SW?
1 Switch de 2 posiciones + 1 Led; Price: ?
footprint sw2x2 (2 Switchs de 2 posiciones)
footprint SW_DPS
part A pins: 1, 2, 3
part B pins: 6 A, 7 K

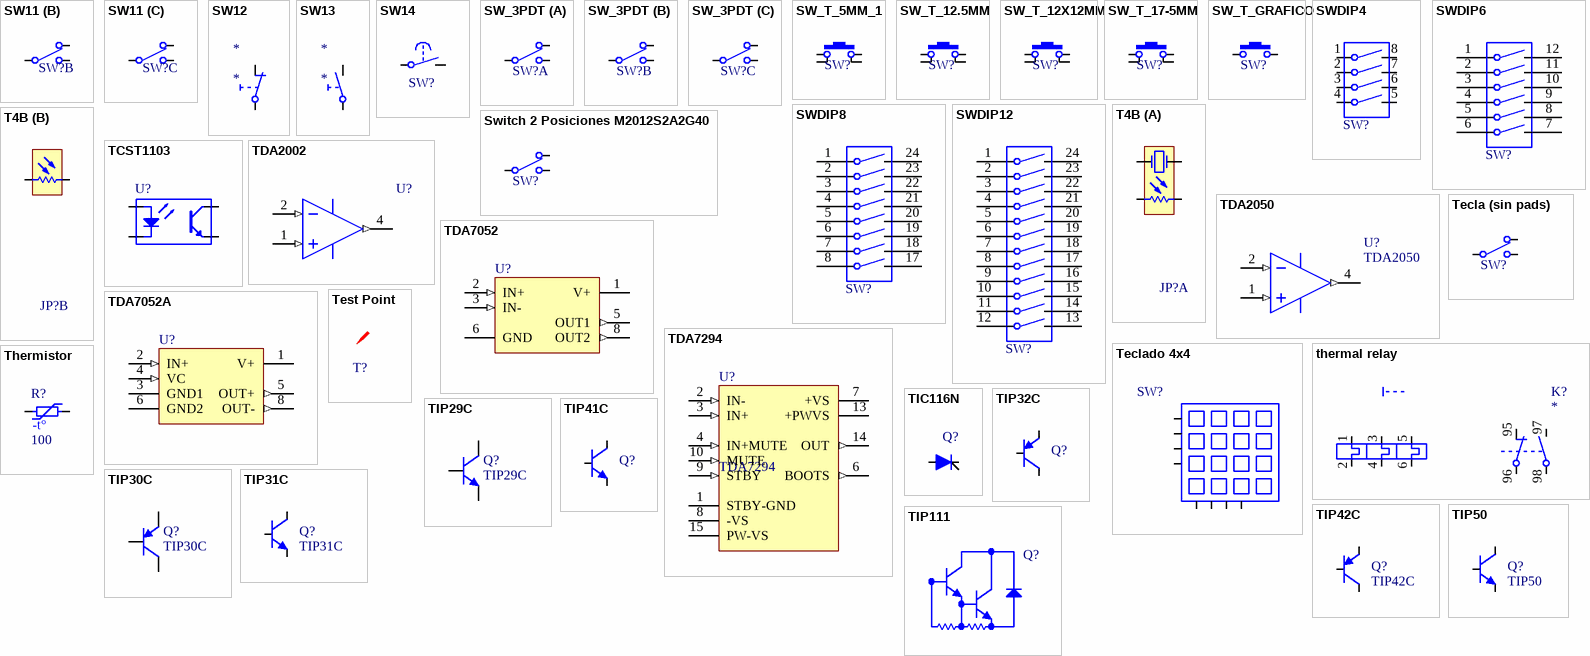
[diagram p22: symbols SW11 to TIP111]

## SW11
designator SW?  (value not drawn)
Price: ?
part A pins: 1, 2, 3
part B pins: 1, 2, 3
part C pins: 1, 2, 3

## SW12
designator *
pins: 1, 2

## SW13
designator *
pins: 1, 2

## SW14
designator SW?  (value not drawn)
Switch con retardo de tiempo; Price: ?
footprint bornera_e2 (BORNERA ENCHUFABLE 2 CONTACTOS)
footprint bornera2
pins: 1, 2

## SW_3PDT
designator SW?  (value not drawn)
3PDT; Price: ?
footprint conpol9x1
footprint SW_3PDT
part A pins: 1, 2, 3
part B pins: 4, 5, 6
part C pins: 7, 8, 9

## SW_T_5MM_1
designator SW?, comment SW_T_5MM  (value not drawn)
Price: ?
footprint SW_T_5MM (Footprint not found)
pins: 1, 2, 3, 4

## SW_T_12.5MM
designator SW?  (value not drawn)
Price: ?
footprint SW_T_12-5MM (PULSADOR DE 2 CONTACTOS, 4 TERMINALES)
pins: 1, 2, 3, 4

## SW_T_12X12MM
designator SW?  (value not drawn)
Price: ?
footprint SW_T_12X12_7.5MM_4P (PULSADOR DE 2 CONTACTOS, 4 TERMINALES)
pins: 1, 2, 3, 4

## SW_T_17-5MM
designator SW?  (value not drawn)
Price: ?
footprint SW_T_17-5MM (PULSADOR DE 2 CONTACTOS, 4 TERMINALES)
pins: 1, 2, 3, 4

## SW_T_GRAFICO
designator SW?  (value not drawn)
SW_T_12X12MM; Price: ?
footprint SW_T_12X12_7.5MM_4P (PULSADOR DE 2 CONTACTOS, 4 TERMINALES)
pins: 3, 4

## SWDIP4
designator SW?
Dip switch 4 contactos; Price: ?
footprint SWDIP4 (DIP SWITCH 4 CONTACTOS)
pins: 1, 2, 3, 4, 5, 6, 7, 8

## SWDIP6
designator SW?
Dip switch 6 contactos; Price: ?
footprint swdip6 (DIP SWITCH 4 CONTACTOS)
pins: 1, 2, 3, 4, 5, 6, 7, 8, 9, 10, 11, 12

## SWDIP8
designator SW?
Dip switch 8 contactos; Price: ?
footprint SWDIP8
pins: 1, 2, 3, 4, 5, 6, 7, 8, 17, 18, 19, 20, 21, 22, 23, 24

## SWDIP12
designator SW?
Dip switch 12 contactos; Price: ?
footprint SWDIP12 (DIP SWITCH 12 CONTACTOS)
pins: 1, 2, 3, 4, 5, 6, 7, 8, 9, 10, 11, 12, 13, 14, 15, 16, 17, 18, 19, 20, 21, 22, 23, 24

## Switch 2 Posiciones M2012S2A2G40
designator SW?, comment M2012S2A2G40  (value not drawn)
Switch 2 Posiciones M2012S2A2G40; Price: ?
footprint SW_TECLA
pins: 1 UP, 2 COM, 3 DOWN

## T4B
designator JP?  (value not drawn)
Price: ?
part A pins: 2, 3, 7, 8
part B pins: 5, 6

## TCST1103
designator U?
Optoaislador de Ranura; Price: ?
footprint tcst1103
pins: 1 A, 2 K, 3 C, 4 E

## TDA2002
designator U?
8W Audio Power Amplifier
footprint TO220 - 5 - 90
pins: 1 IN+ (in), 2 IN- (in), 3 V- (power), 4 OUT (out), 5 V+ (power)

## TDA2050
designator U?
32W Audio Power Amplifier
footprint TO220-5 (Footprint not found)
pins: 1 IN+ (in), 2 IN- (in), 3 V- (power), 4 OUT (out), 5 V+ (power)

## TDA7052
designator U?
1W BTL Mono Audio Amplifier
footprint DIP8Z (ZOCALO DIP 8)
pins: 1 V+ (power), 2 IN+ (in), 3 IN- (in), 5 OUT1 (out), 6 GND (power), 8 OUT2 (out)

## TDA7052A
designator U?
1W BTL Mono Audio Amplifier
footprint DIP8Z (ZOCALO DIP 8)
pins: 1 V+ (power), 2 IN+ (in), 3 GND1 (power), 4 VC (in), 5 OUT+ (out), 6 GND2 (power), 8 OUT- (out)

## TDA7294
designator U?
100W DMOS AUDIO AMPLIFIER
footprint TO220-15 (DISPOSITIVO DE ENCAPSULADO TO-220 DE 15 PNES)
pins: 1 STBY-GND (power), 2 IN- (in), 3 IN+ (in), 4 IN+MUTE (in), 6 BOOTS (out), 7 +VS (power), 8 -VS (power), 9 STBY (in), 10 MUTE (in), 13 +PWVS (power), 14 OUT (out), 15 PW-VS (power)

## Tecla (sin pads)
designator SW?  (value not drawn)
Price: ?
footprint SW_TECLA_NO_PADS (Footprint not found)

## Teclado 4x4
designator SW?  (value not drawn)
Price: ?
footprint tec_4x4
pins: 1, 2, 3, 4, 5, 6, 7, 8

## Test Point
designator T?  (value not drawn)  (no BOM)
footprint Test Point
pins: 1

## thermal relay
designator K?
pins: 1, 2, 3, 4, 5, 6, 95, 96, 97, 98

## Thermistor
designator R?  Resistance: 100
Thermistor; Price: ?
pins: 1, 2
text: -t°

## TIC116N
designator Q?  (value not drawn)
Price: ?
simulation model DIODO (MDL)
footprint TO220 (DISPOSITIVO DE ENCAPSULADO TO-220)
simulation model DIODE (SUBCKT)
pins: 1, 2, 3

## TIP29C
designator Q?
1A 100V NPN Bipolar Transistor
simulation model TIP29C (MDL)
footprint to220 (DISPOSITIVO DE ENCAPSULADO TO-220); pin to pad 1>2 2>1
pins: 1 C, 2 B, 3 E

## TIP30C
designator Q?
1A 100V PNP Darlington Bipolar Transistor; Price: 0.3267
simulation model TIP30C (MDL)
footprint to220 (DISPOSITIVO DE ENCAPSULADO TO-220); pin to pad 1>2 2>1
pins: 1 C, 2 B, 3 E

## TIP31C
designator Q?
3A 100V NPN Bipolar Transistor
simulation model TIP31C (MDL)
simulation model TIP31CV2 (MDL)
footprint TO220 (DISPOSITIVO DE ENCAPSULADO TO-220)
pins: 1 C, 2 B, 3 E

## TIP32C
designator Q?
3A 100V PNP Darlington Bipolar Transistor; Price: 0.3267
simulation model TIP32C (MDL)
footprint to220 (DISPOSITIVO DE ENCAPSULADO TO-220); pin to pad 1>2 2>1
pins: 1 C, 2 B, 3 E

## TIP41C
designator Q?
6A 100V NPN Bipolar Transistor; Price: 0.38
footprint TO220 (DISPOSITIVO DE ENCAPSULADO TO-220); pin to pad 1>2 2>1
simulation model TIP41C (MDL)
pins: 1 C, 2 B, 3 E

## TIP42C
designator Q?
6A 100V PNP Darlington Bipolar Transistor; Price: 0.3267
simulation model TIP42C (MDL)
footprint to220 (DISPOSITIVO DE ENCAPSULADO TO-220); pin to pad 1>2 2>1
pins: 1 C, 2 B, 3 E

## TIP50
designator Q?
1A 400V NPN Bipolar Transistor; Price: 0.38
footprint TO220 (DISPOSITIVO DE ENCAPSULADO TO-220); pin to pad 1>2 2>1
simulation model Qtip50
pins: 1 C, 2 B, 3 E

## TIP111
designator Q?
2A 100V NPN Darlington Bipolar Transistor; Price: 1.2193
footprint to220 (DISPOSITIVO DE ENCAPSULADO TO-220); pin to pad 1>2 2>1
pins: 1 C, 2 B, 3 E

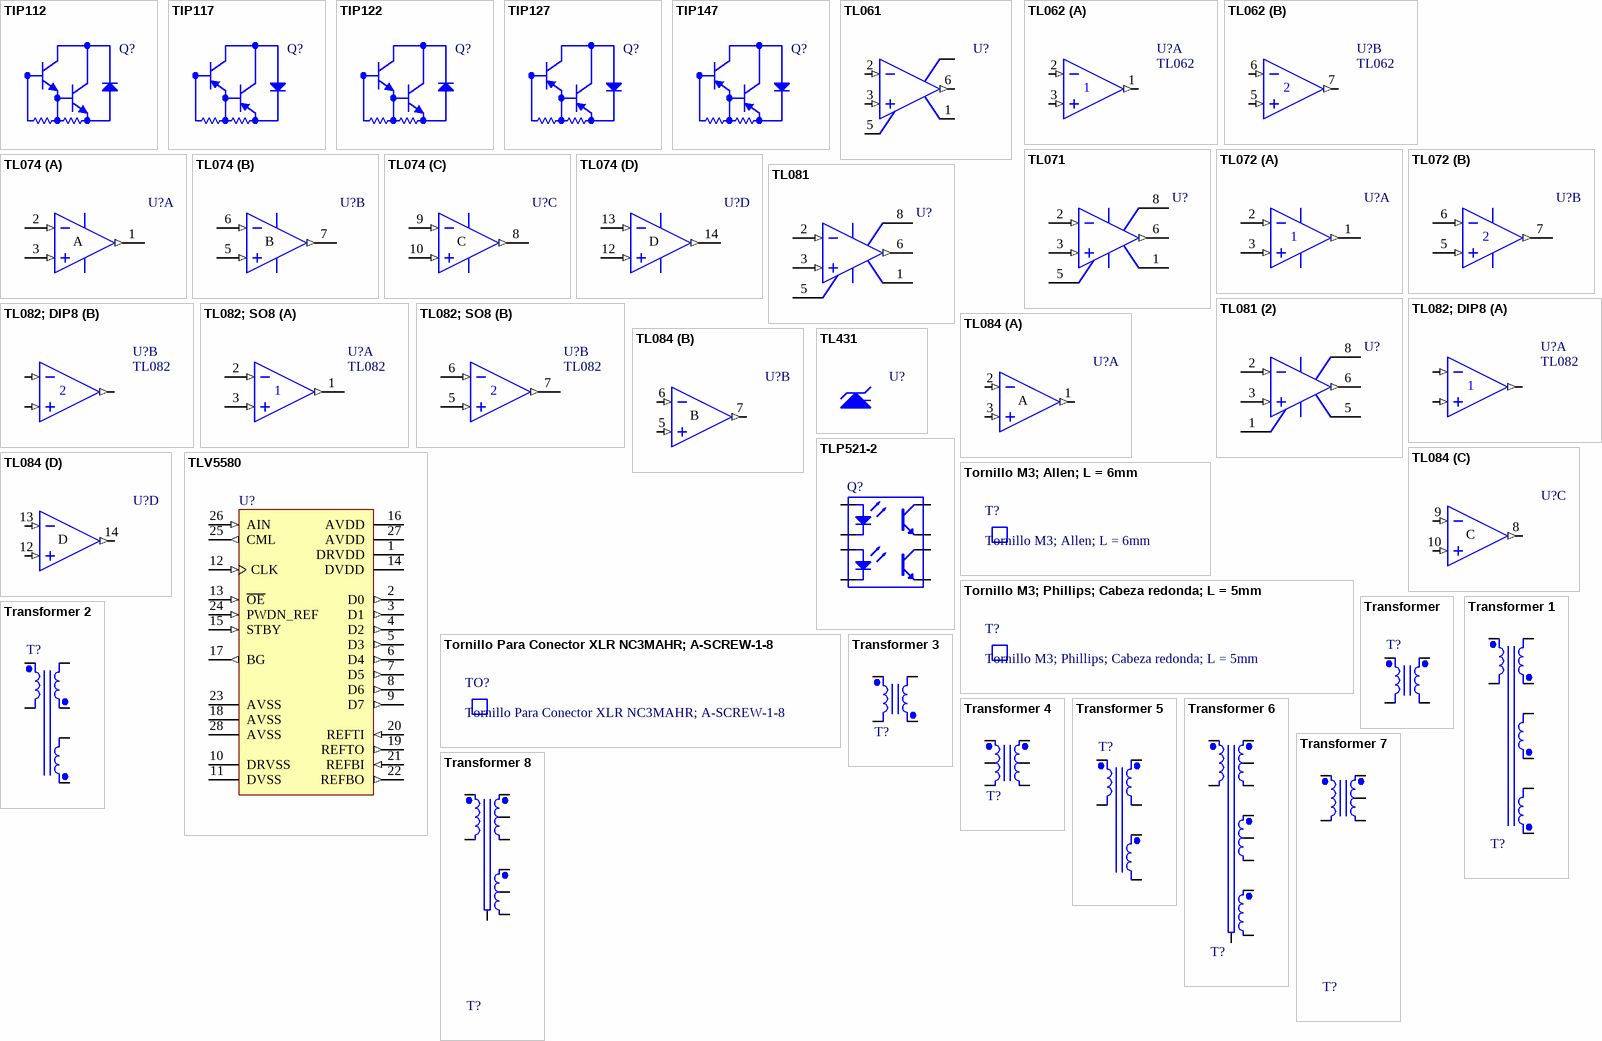
[diagram p23: symbols TIP112 to Transformer 8]

## TIP112
designator Q?
2A 100V NPN Darlington Bipolar Transistor; Price: 1.2193
footprint to220 (DISPOSITIVO DE ENCAPSULADO TO-220); pin to pad 1>2 2>1
simulation model TIP112 (SUBCKT)
pins: 1 C, 2 B, 3 E

## TIP117
designator Q?
2A 100V PNP Darlington Bipolar Transistor; Price: ?
footprint TO220 (DISPOSITIVO DE ENCAPSULADO TO-220); pin to pad 1>2 2>1
simulation model TIP117 (SUBCKT)
pins: 1 C, 2 B, 3 E

## TIP122
designator Q?
5A 100V NPN Darlington Bipolar Transistor; Price: 1.2193
footprint to220 (DISPOSITIVO DE ENCAPSULADO TO-220); pin to pad 1>2 2>1
simulation model TIP122 (SUBCKT)
pins: 1 C, 2 B, 3 E

## TIP127
designator Q?
5A 100V PNP Darlington Bipolar Transistor; Price: ?
footprint TO220 (DISPOSITIVO DE ENCAPSULADO TO-220); pin to pad 1>2 2>1
simulation model TIP127 (SUBCKT)
pins: 1 C, 2 B, 3 E

## TIP147
designator Q?
10A 100V PNP Darlington Bipolar Transistor; Price: ?
footprint TO220 (DISPOSITIVO DE ENCAPSULADO TO-220); pin to pad 1>2 2>1
simulation model TIP147 (SUBCKT)
pins: 1 C, 2 B, 3 E

## TL061
designator U?
JFET-Input Operational Amplifier; Price: ?
simulation model TL06X (SUBCKT)
footprint DIP8z (ZOCALO DIP 8)
pins: 1 OFFSET2, 2 IN- (in), 3 IN+ (in), 4 V- (power), 5 OFFSET1, 6 OUT (out), 7 V+ (power), 8 NC

## TL062
designator U?
footprint dip8z (ZOCALO DIP 8)
simulation model TL08X (Model Description)
pins on every part: 4 V- (power), 8 V+ (power)
part A pins: 1 OUT (out), 2 IN- (in), 3 IN+ (in)
part B pins: 5 IN+ (in), 6 IN- (in), 7 OUT (out)

## TL071
designator U?
JFET-Input Operational Amplifier; Price: ?
simulation model TL08X (SUBCKT)
footprint DIP8z (ZOCALO DIP 8)
pins: 1 OFFSET2, 2 IN- (in), 3 IN+ (in), 4 V- (power), 5 OFFSET1, 6 OUT (out), 7 V+ (power), 8 NC

## TL072
designator U?
Wide-Bandwidth Dual JFET Input Operational Amplifier
footprint dip8z (ZOCALO DIP 8)
simulation model TL08X (Model Description)
pins on every part: 4 V- (power), 8 V+ (power)
part A pins: 1 OUT (out), 2 IN- (in), 3 IN+ (in)
part B pins: 5 IN+ (in), 6 IN- (in), 7 OUT (out)

## TL074
designator U?
JFET-Input Operational Amplifier; Revision: 17-Jul-2002: Re-released for DXP Platform.
footprint DIP14Z (ZOCALO DIP14)
simulation model TL08X (SUBCKT)
simulation model OPAMP (SUBCKT)
pins on every part: 4 V+ (power), 11 V- (power)
part A pins: 1 OUT (out), 2 IN- (in), 3 IN+ (in)
part B pins: 5 IN+ (in), 6 IN- (in), 7 OUT (out)
part C pins: 8 OUT (out), 9 IN- (in), 10 IN+ (in)
part D pins: 12 IN+ (in), 13 IN- (in), 14 OUT (out)
part A text: A
part B text: B
part C text: C
part D text: D

## TL081
designator U?
JFET-Input Operational Amplifier; Price: ?
simulation model TL08X (SUBCKT)
footprint DIP8z (ZOCALO DIP 8)
footprint so8 (SO8 IC)
pins: 1 OFFSET2, 2 IN- (in), 3 IN+ (in), 4 V- (power), 5 OFFSET1, 6 OUT (out), 7 V+ (power), 8 NC

## TL081 (2)
designator U?
JFET-Input Operational Amplifier; Price: ?
simulation model TL08X (SUBCKT)
footprint DIP8z (ZOCALO DIP 8)
footprint so8 (SO8 IC)
pins: 1 OFFSET2, 2 IN- (in), 3 IN+ (in), 4 V- (power), 5 OFFSET1, 6 OUT (out), 7 V+ (power), 8 NC

## TL082; DIP8
designator U?, comment TL082
TL082; DIP8
simulation model TL08X (Model Description)
footprint DIP8 (DIP14 IC)
pins on every part: 4 V- (power), 8 V+ (power)
part A pins: 1 OUT (out), 2 IN- (in), 3 IN+ (in)
part B pins: 5 IN+ (in), 6 IN- (in), 7 OUT (out)

## TL082; SO8
designator U?, comment TL082
TL082; SO8; Codigo Mouser: 511-TL082IDT; Dolares Mouser: 0.41; Dolares Mouser x10: 0.343; Dolares Mouser x100: 0.209
simulation model TL08X (Model Description)
footprint so8 (SO8 IC)
pins on every part: 4 V- (power), 8 V+ (power)
part A pins: 1 OUT (out), 2 IN- (in), 3 IN+ (in)
part B pins: 5 IN+ (in), 6 IN- (in), 7 OUT (out)

## TL084
designator U?
JFET-Input Operational Amplifier; Revision: 17-Jul-2002: Re-released for DXP Platform.
footprint DIP14Z (ZOCALO DIP14)
simulation model TL08X (SUBCKT)
simulation model OPAMP (SUBCKT)
footprint so14 (SO14 IC)
pins on every part: 4 V+ (power), 11 V- (power)
part A pins: 1 OUT (out), 2 IN- (in), 3 IN+ (in)
part B pins: 5 IN+ (in), 6 IN- (in), 7 OUT (out)
part C pins: 8 OUT (out), 9 IN- (in), 10 IN+ (in)
part D pins: 12 IN+ (in), 13 IN- (in), 14 OUT (out)
part A text: A
part B text: B
part C text: C
part D text: D

## TL431
designator U?
Adjustable Zener Diode; Price: ?
footprint TO92B
simulation model TL431 (SUBCKT)
footprint TO92 (DISPOSITIVO DE ENCAPSULADO TO-92)
pins: 1 REF, 2 A, 3 K

## TLP521-2
designator Q?
Optoaislador; Price: ?
footprint dip8z (ZOCALO DIP 8)
pins: 1 A, 2 K, 3 A, 4 K, 5 E, 6 C, 7 E, 8 C

## TLV5580
designator U?
8-Bit 80MSPS Analog-to-Digital Converter
footprint tssop28_065
pins: 1 DRVDD (power), 2 D0 (out), 3 D1 (out), 4 D2 (out), 5 D3 (out), 6 D4 (out), 7 D5 (out), 8 D6 (out), 9 D7 (out), 10 DRVSS (power), 11 DVSS (power), 12 CLK (in), 13 ~{OE} (in), 14 DVDD (power), 15 STBY (in), 16 AVDD (power), 17 BG (out), 18 AVSS (power), 19 REFTO (out), 20 REFTI (in), 21 REFBI (in), 22 REFBO (out), 23 AVSS (power), 24 PWDN_REF (in), 25 CML (out), 26 AIN (in), 27 AVDD (power), 28 AVSS (power)

## Tornillo M3; Allen; L = 6mm
designator T?
footprint Tornillo M3 - Allen - 6mm

## Tornillo M3; Phillips; Cabeza redonda; L = 5mm
designator T?
footprint Tornillo M3 - 5mm

## Tornillo Para Conector XLR NC3MAHR; A-SCREW-1-8
designator TO?  (mechanical)
Codigo Mouser: 568-A-SCREW-1-8; Dolares Mouser: 0.14; Dolares Mouser x10: 0.139; Dolares Mouser x25: 0.133; Dolares Mouser x50: 0.132; Dolares Mouser x100: 0.123

## Transformer
designator T?
Transformer; Price: ?
footprint COSMO - EE 1905; pin to pad 2>4 3>8 4>5
footprint hdr4x1 (HEADER 4x1)
simulation model TRAFO1SEC (SUBCKT)
footprint bornera4
pins: 1, 2, 3, 4

## Transformer 1
designator T?
Four-winding Transformer; Revision: July-2002: Re-released for DXP Platform.; Publisher: Altium Limited
footprint COSMO - EE 1905; pin to pad 1>3 2>4 3>5 4>6 5>7 6>8 7>1 8>2
footprint COSMO - EE 2507
pins: 1, 2, 3, 4, 5, 6, 7, 8

## Transformer 2
designator T?
Three-winding Transformer; Revision: July-2002: Re-released for DXP Platform.; Publisher: Altium Limited
simulation model TRAFO2SEC (SUBCKT)
footprint EI_62; pin to pad 2>6 3>12 4>10 5>9 6>7
footprint TOROIDE T1004C
pins: 1, 2, 3, 4, 5, 6

## Transformer 3
designator T?  (value not drawn)
Transformer; Price: ?
footprint COSMO - EE 1905; pin to pad 2>4 3>8 4>5
footprint UU1016
pins: 1, 2, 3, 4

## Transformer 4
designator T?
Transformer; Price: ?
pins: 1, 2, 3, 4, 5, 6

## Transformer 5
designator T?
Three-winding Transformer; Revision: July-2002: Re-released for DXP Platform.; Publisher: Altium Limited
simulation model TRAFO2SEC (SUBCKT)
footprint EI_62; pin to pad 2>6 3>12 4>10 5>9 6>7
footprint TOROIDE T1004C
pins: 1, 2, 3, 4, 5, 6

## Transformer 6
designator T?
Transformer; Price: ?
footprint CONPOL11x1-.156
pins: 1, 2, 3, 4, 5, 6, 7, 8, 9, 10, 11

## Transformer 7
designator T?  (value not drawn)
Transformer; Price: ?
pins: 1, 2, 4, 5, 6

## Transformer 8
designator T?  (value not drawn)
Transformer; Price: ?
footprint CONPOL11x1-.156
pins: 1, 2, 3, 4, 5, 6, 7, 8, 9

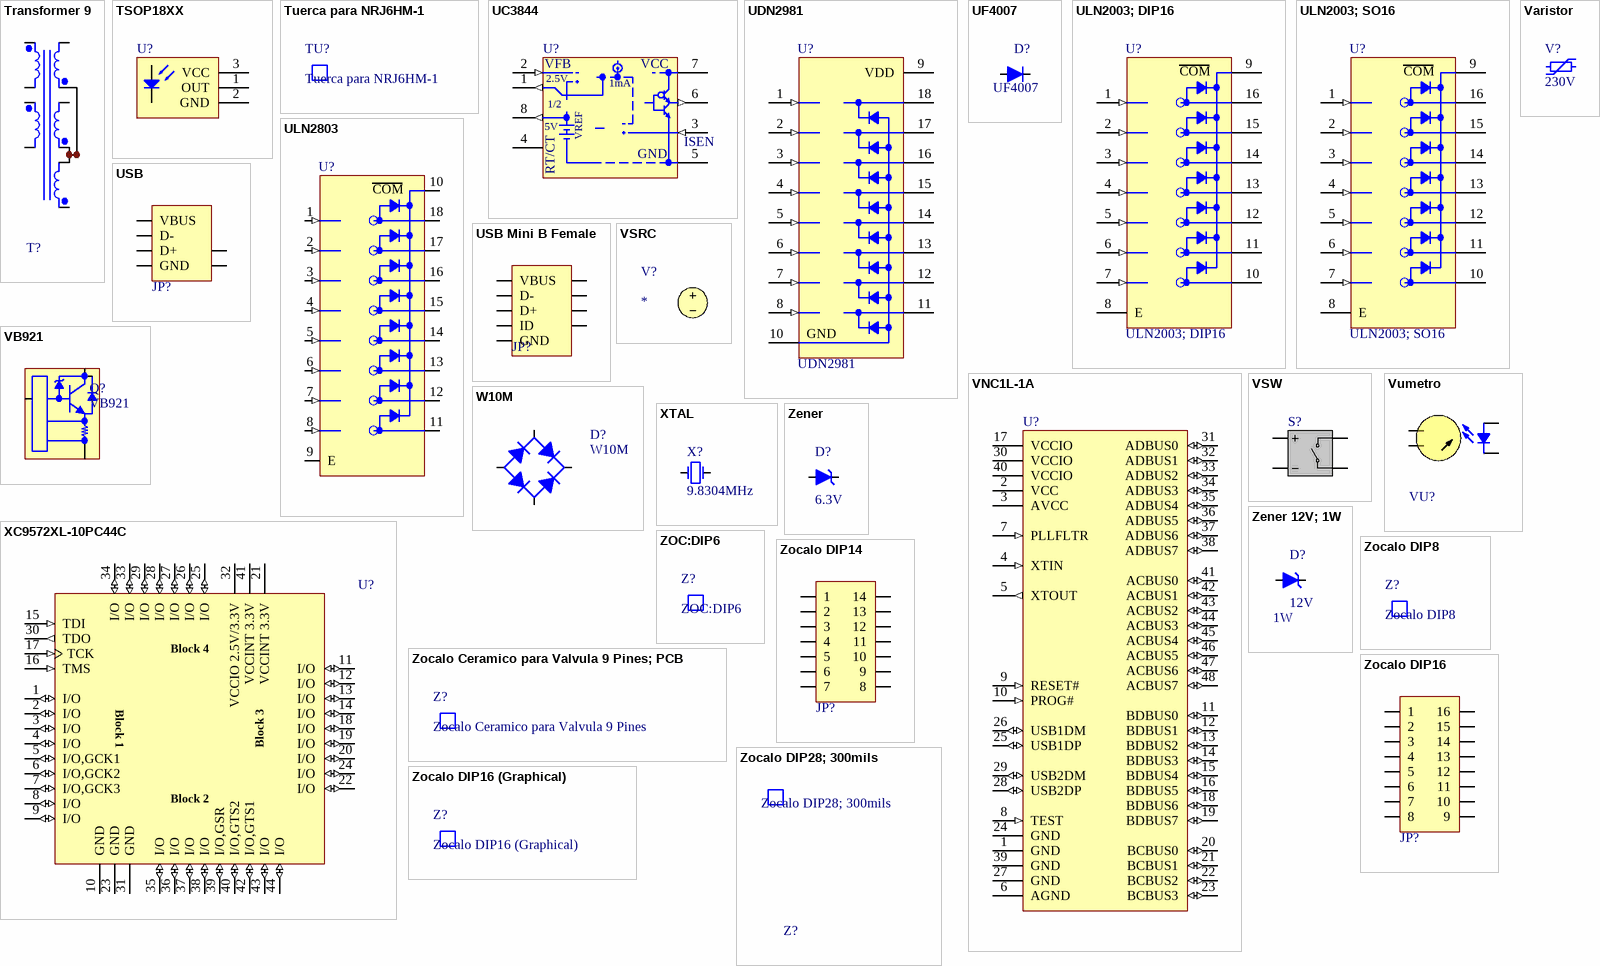
[diagram p24: symbols Transformer 9 to Zocalo DIP28; 300mils]

## Transformer 9
designator T?  (value not drawn)
Four-winding Transformer; Revision: July-2002: Re-released for DXP Platform.
footprint COSMO - EE 2507
pins: 1, 2, 3, 4, 5, 6, 7, 8

## TSOP18XX
designator U?
IR remote control receiver; Price: ?
footprint IR90 (RECEPTOR INFRA-ROJO)
pins: 1 OUT (power), 2 GND (power), 3 VCC (power)

## Tuerca para NRJ6HM-1
designator TU?  (mechanical)
Codigo Mouser: 568-NRJ-NUT-MN; Dolares Mouser: 0.18; Dolares Mouser x10: 0.178; Dolares Mouser x25: 0.167; Dolares Mouser x50: 0.166

## UC3844
designator U?
Current-Mode PWM Controller
footprint DIP8Z (ZOCALO DIP 8)
simulation model UC3844 (SUBCKT)
pins: 1 CMPEN (out), 2 VFB (in), 3 ISEN (in), 4 RT/CT, 5 GND (power), 6 OUT (out), 7 VCC (power), 8 VREF (out)
text: 2.5V; 1mA; 1/2; 5V

## UDN2981
designator U?
8 channel source drivers; Price: 1.40
footprint DIP18Z (ZOCALO DIP18)
footprint SOIC18
pins: 1 B1 (in), 2 B2 (in), 3 B3 (in), 4 B4 (in), 5 B5 (in), 6 B6 (in), 7 B7 (in), 8 B8 (in), 9 VDD (power), 10 ~{COM}, 11 ~{C}8 (oc), 12 ~{C}7 (oc), 13 ~{C}6 (oc), 14 ~{C}5 (oc), 15 ~{C}4 (oc), 16 ~{C}3 (oc), 17 ~{C}2 (oc), 18 ~{C}1 (oc)
text: GND

## UF4007
designator D?
1A 1000V Ultra Fast Recovery Rectifier
footprint D_DO41
simulation model UF4007 (DIODE)
pins: 1, 2

## ULN2003; DIP16
designator U?
footprint DIP16 (DIP16 IC)
pins: 1 B1 (in), 2 B2 (in), 3 B3 (in), 4 B4 (in), 5 B5 (in), 6 B6 (in), 7 B7 (in), 8 E (power), 9 ~{COM}, 10 ~{C}7 (oc), 11 ~{C}6 (oc), 12 ~{C}5 (oc), 13 ~{C}4 (oc), 14 ~{C}3 (oc), 15 ~{C}2 (oc), 16 ~{C}1 (oc)
text: COM

## ULN2003; SO16
designator U?
footprint SO16 (SO16 IC)
pins: 1 B1 (in), 2 B2 (in), 3 B3 (in), 4 B4 (in), 5 B5 (in), 6 B6 (in), 7 B7 (in), 8 E (power), 9 ~{COM}, 10 ~{C}7 (oc), 11 ~{C}6 (oc), 12 ~{C}5 (oc), 13 ~{C}4 (oc), 14 ~{C}3 (oc), 15 ~{C}2 (oc), 16 ~{C}1 (oc)
text: COM

## ULN2803
designator U?
Darlington Transistor Array; Price: 1.40
footprint DIP18Z (ZOCALO DIP18)
footprint SOIC18
pins: 1 B1 (in), 2 B2 (in), 3 B3 (in), 4 B4 (in), 5 B5 (in), 6 B6 (in), 7 B7 (in), 8 B8 (in), 9 E (power), 10 ~{COM}, 11 ~{C}8 (oc), 12 ~{C}7 (oc), 13 ~{C}6 (oc), 14 ~{C}5 (oc), 15 ~{C}4 (oc), 16 ~{C}3 (oc), 17 ~{C}2 (oc), 18 ~{C}1 (oc)
text: COM

## USB
designator JP?
USB Connector; Price: ?
footprint USB_A_MALE
footprint USB_B_FEMALE
pins: 1 VBUS, 2 D-, 3 D+, 4 GND, 5, 6

## USB Mini B Female
designator JP?  (value not drawn)
USB Connector; Price: ?
footprint USB_MINI_B_FEMALE
footprint USB_B_FEMALE
pins: 1 VBUS, 2 D-, 3 D+, 4 ID, 5 GND, 6 CH6, 7 CH7, 8 CH8, 9 CH9

## Varistor
designator V?  Voltage: 230V
Varistor; Price: ?
footprint varistor300 (VARISTOR)
pins: 1, 2

## VB921
designator Q?
Price: ?
footprint TO220 (DISPOSITIVO DE ENCAPSULADO TO-220); pin to pad 1>2 2>1
pins: 1 C, 2 B, 3 E

## VNC1L-1A
designator U?
Embedded USB Host Controller I.C.
footprint FQFP48_05MM
pins: 1 GND (power), 2 VCC (power), 3 AVCC (power), 4 XTIN (in), 5 XTOUT (out), 6 AGND (power), 7 PLLFLTR (in), 8 TEST (in), 9 RESET# (in), 10 PROG# (in), 11 BDBUS0 (io), 12 BDBUS1 (io), 13 BDBUS2 (io), 14 BDBUS3 (io), 15 BDBUS4 (io), 16 BDBUS5 (io), 17 VCCIO (power), 18 BDBUS6 (io), 19 BDBUS7 (io), 20 BCBUS0 (io), 21 BCBUS1 (io), 22 BCBUS2 (io), 23 BCBUS3 (io), 24 GND (power), 25 USB1DP (io), 26 USB1DM (io), 27 GND (power), 28 USB2DP (io), 29 USB2DM (io), 30 VCCIO (power), 31 ADBUS0 (io), 32 ADBUS1 (io), 33 ADBUS2 (io), 34 ADBUS3 (io), 35 ADBUS4 (io), 36 ADBUS5 (io), 37 ADBUS6 (io), 38 ADBUS7 (io), 39 GND (power), 40 VCCIO (power), 41 ACBUS0 (io), 42 ACBUS1 (io), 43 ACBUS2 (io), 44 ACBUS3 (io), 45 ACBUS4 (io), 46 ACBUS5 (io), 47 ACBUS6 (io), 48 ACBUS7 (io)

## VSRC
designator V?
pins: 1, 3

## VSW
designator S?
Voltage Controlled Switch (simulación); Revision: 17-Jul-2002: Re-released for DXP Platform.
simulation model VSWITCH (SUBCKT)
pins: 1 N1+, 2 N1-, 3 N2+, 4 N2-

## Vumetro
designator VU?  (value not drawn)
Price: ?
pins: 1, 2, 3, 4

## W10M
designator D?
Codigo Elemon: DI1252030; Dolares Elemon: 0.23651
footprint DIODE BRIDGE2
simulation model Bridge (Ideal bridge)
pins: 1 A, 2 C, 3 K, 4 C

## XC9572XL-10PC44C
designator U?
High Performance CPLD with 72 Macrocells
footprint PLCC44V2
footprint PLCC44 (ZOCALO PLCC 44)
pins: 1 I/O (io), 2 I/O (io), 3 I/O (io), 4 I/O (io), 5 I/O,GCK1 (io), 6 I/O,GCK2 (io), 7 I/O,GCK3 (io), 8 I/O (io), 9 I/O (io), 10 GND (power), 11 I/O (io), 12 I/O (io), 13 I/O (io), 14 I/O (io), 15 TDI (in), 16 TMS (in), 17 TCK (in), 18 I/O (io), 19 I/O (io), 20 I/O (io), 21 VCCINT 3.3V (power), 22 I/O (io), 23 GND (power), 24 I/O (io), 25 I/O (io), 26 I/O (io), 27 I/O (io), 28 I/O (io), 29 I/O (io), 30 TDO (out), 31 GND (power), 32 VCCIO 2.5V/3.3V (power), 33 I/O (io), 34 I/O (io), 35 I/O (io), 36 I/O (io), 37 I/O (io), 38 I/O (io), 39 I/O,GSR (io), 40 I/O,GTS2 (io), 41 VCCINT 3.3V (power), 42 I/O,GTS1 (io), 43 I/O (io), 44 I/O (io)
text: Block 4; Block 1; Block 3; Block 2

## XTAL
designator X?  value 9.8304MHz  (hidden comment: XTAL)
Crystal Oscillator; Price: ?
footprint HC49S (CRISTAL DE CUARZO)
footprint XTAL2
footprint piezo20mm
pins: 1 OSC1, 2 OSC2

## Zener
designator D?  VOLTAJE: 6.3V  (hidden comment: Zener)
Zener Diode; Price: ?
footprint D_SOD27 (DIODO THROUGH-HOLE)
simulation model DZ (SUBCKT)
footprint DIODE300_1MM
footprint diode7.5mmx4mm
footprint dsmd1mm (DIODO SMD)
pins: 1 A, 2 K

## Zener 12V; 1W
designator D?  VOLTAJE: 12V  Potencia: 1W  (hidden comment: Zener 12V; 1W)
Dolares Elemon: 0.06201; Codigo Elemon: DI1112137
footprint DIODE300 (DIODO THROUGH-HOLE)
simulation model DZ (SUBCKT)
footprint DIODE300_1MM
footprint diode7.5mmx4mm
footprint dsmd1mm (DIODO SMD)
pins: 1, 2

## ZOC:DIP6
designator Z?
Dolares Elemon x30: 0.06458; Codigo Elemon: MC2971020
footprint ZOC_DIP6 (ZOCALO DIP 6)

## Zocalo Ceramico para Valvula 9 Pines; PCB
designator Z?, comment Zocalo Ceramico para Valvula 9 Pines  (mechanical)
Zocalo Ceramico para Valvula 9 Pines; PCB; Codigo Ebay: 251991948289; Dolares Ebay: 0.741

## Zocalo DIP8
designator Z?  (mechanical)
Dolares Elemon x30: 0.06458; Codigo Elemon: MC2971020

## Zocalo DIP14
designator JP?  (value not drawn)
Price: ?
footprint DIP14Z (ZOCALO DIP14)
pins: 1, 2, 3, 4, 5, 6, 7, 8, 9, 10, 11, 12, 13, 14

## Zocalo DIP16
designator JP?  (value not drawn)
Price: ?
footprint Dip16z (ZOCALO DIP16)
footprint HDR8x290 (HEADER 8x2 a 90°)
pins: 1, 2, 3, 4, 5, 6, 7, 8, 9, 10, 11, 12, 13, 14, 15, 16

## Zocalo DIP16 (Graphical)
designator Z?
Zocalo DIP8; Dolares Elemon x30: 0.06458; Codigo Elemon: MC2971020
footprint DIP16Z_GRAPHICAL (ZOCALO DIP16)

## Zocalo DIP28; 300mils
designator Z?
Dolares Elemon: 0.10941; Codigo Elemon: MC2971062
footprint DIP28Z 300MILS